# Altium schematic symbol library SCH - PASSIVES - TEST POINT.Schlib: 1 symbol
Pins are listed as number, name and electrical type; pins without a type are passive.

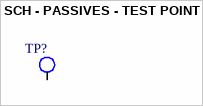
[diagram p0: symbol SCH - PASSIVES - TEST POINT]

## SCH - PASSIVES - TEST POINT
designator TP?, comment Testpoint  (value not drawn)  (no BOM)
Value: no physical part
footprint Testpoint_TOP_1mm
pins: 1 "Internally-connected Pins (Leave open)"